# EAGLE library part ADS7843 (library ads7843)
ads ads7843 ssop ssop16 ssop-16 tssop tssop16 tssop-16
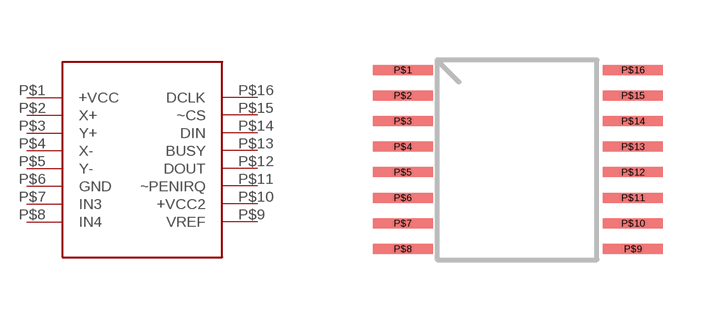
[diagram p0: symbol with the pads of SSOP-16; footprint SSOP-16]

Designator prefix -

## ADS7843  [SSOP-16]
P$1  +VCC
P$2  X+
P$3  Y+
P$4  X-
P$5  Y-
P$6  GND
P$7  IN3
P$8  IN4
P$9  VREF
P$10  +VCC2
P$11  ~PENIRQ
P$12  DOUT
P$13  BUSY
P$14  DIN
P$15  ~CS
P$16  DCLK

## Footprint SSOP-16 (pad centres in mm)
ssop ssop16 ssop-16 0.64mm
smd 1.5 x 0.25: P$1 0.64,0; P$2 0.64,-0.64; P$3 0.64,-1.28; P$4 0.64,-1.92; P$5 0.64,-2.56; P$6 0.64,-3.2; P$7 0.64,-3.84; P$8 0.64,-4.48; P$9 6.4,-4.48; P$10 6.4,-3.84; P$11 6.4,-3.2; P$12 6.4,-2.56; P$13 6.4,-1.92; P$14 6.4,-1.28; P$15 6.4,-0.64; P$16 6.4,0